# Altium footprint library PcbLib1.PcbLib: 74 footprints (part 3 of 5)
Each footprint in its own frame and in the unit in brackets; x right, y up, seen from the top. Pads: shape width x height; smd on the part's side, far side on the other; paste and mask are expansions set on the pad; w line width, h text height; cw(c..) or ccw(c..) is an arc to the next point about the centre after c.
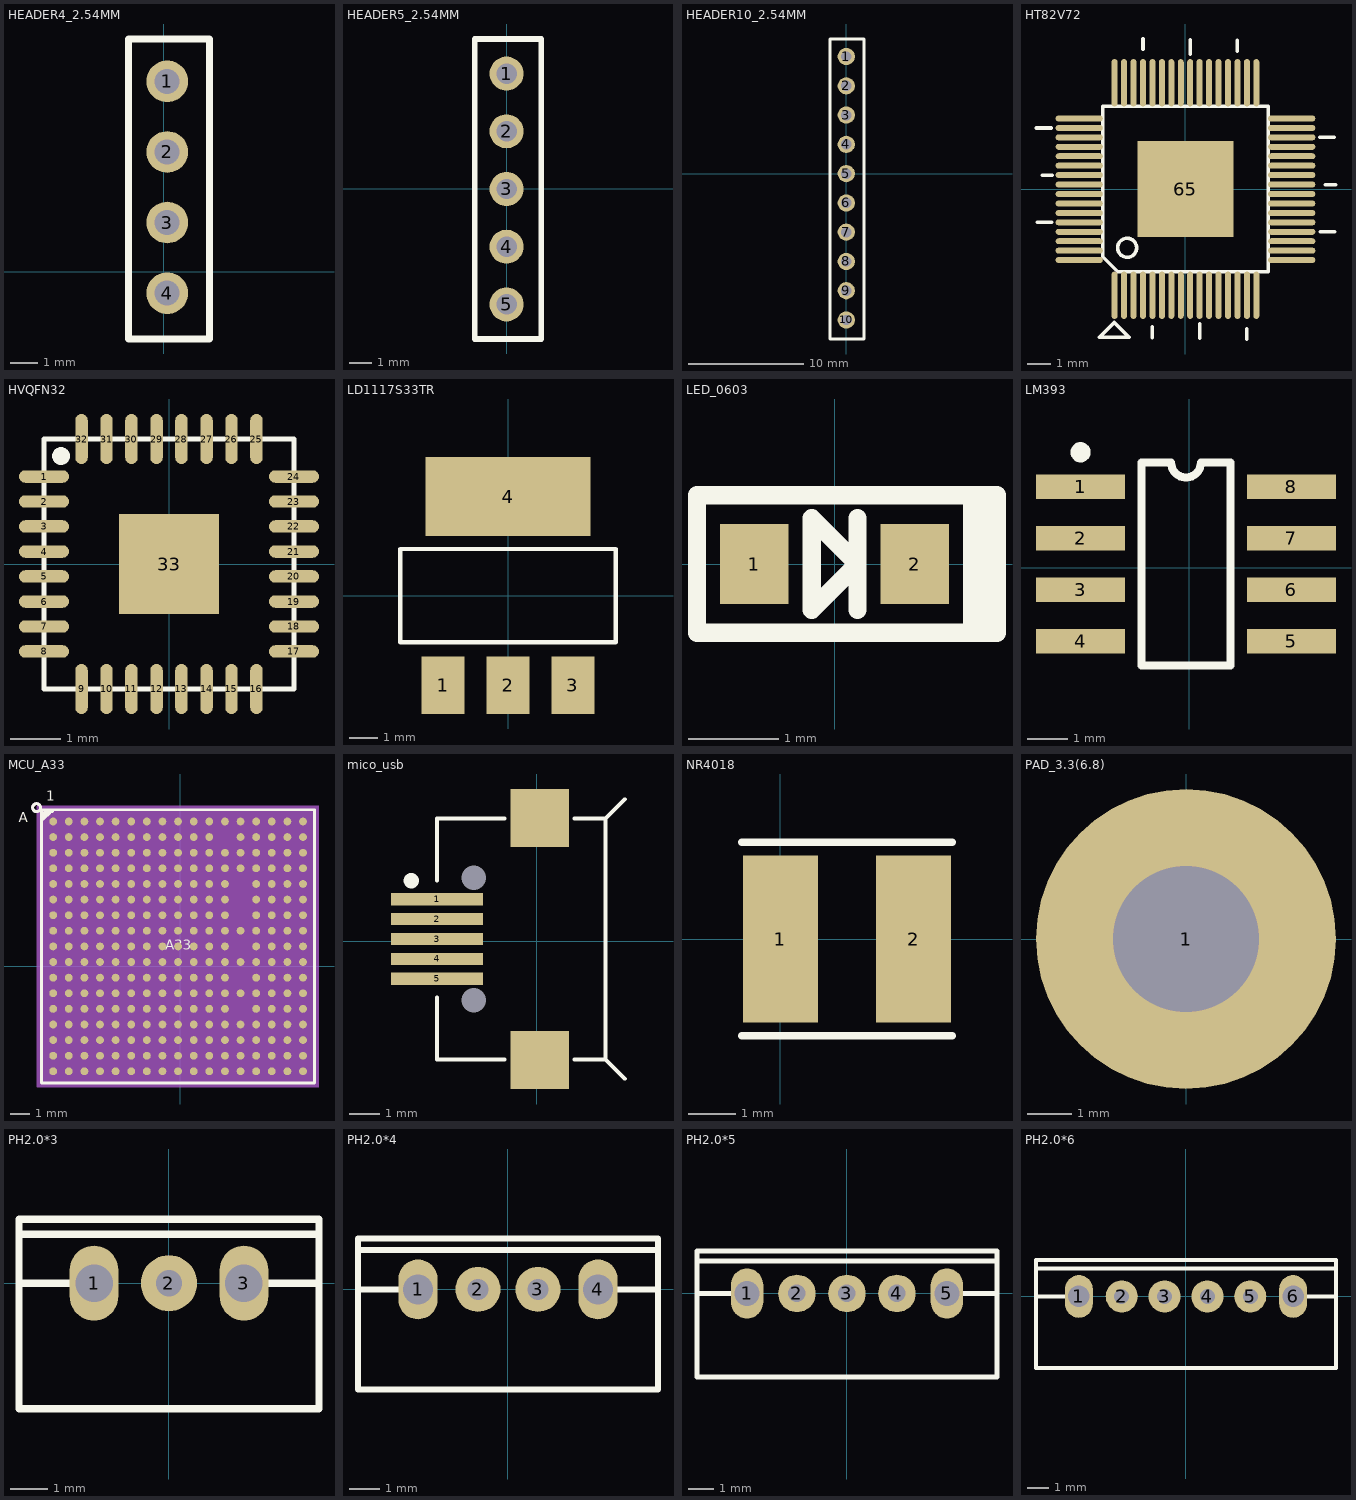
[diagram p2: the footprints below, top view; thin cyan lines are the x and y axes]

## HEADER4_2.54MM [mm]
pads (4):
  round 1.5 hole 0.9: 1(0.127,6.858) 2(0.127,4.318) 3(0.127,1.778) 4(0.127,-0.762)
Top Overlay:
  lines w0.254: -1.27,-2.413 1.651,-2.413 1.651,8.382 -1.27,8.382 -1.27,-2.413

## HEADER5_2.54MM [mm]
pads (5):
  round 1.5 hole 0.9: 1(0,5.08) 2(0,2.54) 3(0,0) 4(0,-2.54) 5(0,-5.08)
Top Overlay:
  lines w0.254: -1.397,-6.604 1.524,-6.604 1.524,6.604 -1.397,6.604 -1.397,-6.604

## HEADER10_2.54MM [mm]
pads (10):
  round 1.5 hole 0.9: 1(0,10.16) 2(0,7.62) 3(0,5.08) 4(0,2.54) 5(0,0) 6(0,-2.54) 7(0,-5.08) 8(0,-7.62) 9(0,-10.16) 10(0,-12.7)
Top Overlay:
  lines w0.254: -1.397,-14.351 1.524,-14.351 1.524,11.684 -1.397,11.684 -1.397,-14.351

## HT82V72 [mm]
pads (65):
  oval 0.254x2 smd: 1(-3,-4.5) 2(-2.6,-4.5) 3(-2.2,-4.5) 4(-1.8,-4.5) 5(-1.4,-4.5) 6(-1,-4.5) 7(-0.6,-4.5) 8(-0.2,-4.5) 9(0.2,-4.5) 10(0.6,-4.5) 11(1,-4.5) 12(1.4,-4.5) 13(1.8,-4.5) 14(2.2,-4.5) 15(2.6,-4.5) 16(3,-4.5) 33(3,4.5) 34(2.6,4.5) 35(2.2,4.5) 36(1.8,4.5) 37(1.4,4.5) 38(1,4.5) 39(0.6,4.5) 40(0.2,4.5) 41(-0.2,4.5) 42(-0.6,4.5) 43(-1,4.5) 44(-1.4,4.5) 45(-1.8,4.5) 46(-2.2,4.5) 47(-2.6,4.5) 48(-3,4.5)
  oval 2x0.254 smd: 17(4.5,-3.012) 18(4.5,-2.612) 19(4.5,-2.212) 20(4.5,-1.812) 21(4.5,-1.412) 22(4.5,-1.012) 23(4.5,-0.612) 24(4.5,-0.212) 25(4.5,0.188) 26(4.5,0.588) 27(4.5,0.988) 28(4.5,1.388) 29(4.5,1.788) 30(4.5,2.188) 31(4.5,2.588) 32(4.5,2.988) 49(-4.5,2.988) 50(-4.5,2.588) 51(-4.5,2.188) 52(-4.5,1.788) 53(-4.5,1.388) 54(-4.5,0.988) 55(-4.5,0.588) 56(-4.5,0.188) 57(-4.5,-0.212) 58(-4.5,-0.612) 59(-4.5,-1.012) 60(-4.5,-1.412) 61(-4.5,-1.812) 62(-4.5,-2.212) 63(-4.5,-2.612) 64(-4.5,-3.012)
  rect 4.06x4.06 smd: 65(0,0)
Top Overlay:
  circle w0.152: c-2.471,-2.491 r0.402
  lines w0.152: -6.309,2.585 -5.697,2.585 ; -6.274,-1.415 -5.662,-1.415 ; -6.071,0.585 -5.636,0.585 ; -1.8,5.918 -1.8,6.353 ; -1.4,-6.301 -1.4,-5.842 ; 0.2,5.715 0.2,6.327 ; 0.6,-6.327 0.6,-5.715 ; 2.2,5.842 2.2,6.301 ; 2.6,-6.353 2.6,-5.918 ; 5.68,2.188 6.292,2.188 ; 5.715,-1.812 6.327,-1.812 ; 5.918,0.188 6.353,0.188 ; -3.651,-6.286 -2.381,-6.286 -3.016,-5.651 -3.651,-6.286 ; -3.5,-2.865 -2.865,-3.5 3.5,-3.5 3.5,3.5 -3.5,3.5 -3.5,-2.865

## HVQFN32 [mm]
pads (33):
  oval 1x0.25 smd paste-0.025: 1(-2.5,1.75) 2(-2.5,1.25) 3(-2.5,0.75) 4(-2.5,0.25) 5(-2.5,-0.25) 6(-2.5,-0.75) 7(-2.5,-1.25) 8(-2.5,-1.75) 17(2.5,-1.75) 18(2.5,-1.25) 19(2.5,-0.75) 20(2.5,-0.25) 21(2.5,0.25) 22(2.5,0.75) 23(2.5,1.25) 24(2.5,1.75)
  oval 0.25x1 smd paste-0.025: 9(-1.75,-2.5) 10(-1.25,-2.5) 11(-0.75,-2.5) 12(-0.25,-2.5) 13(0.25,-2.5) 14(0.75,-2.5) 15(1.25,-2.5) 16(1.75,-2.5) 25(1.75,2.5) 26(1.25,2.5) 27(0.75,2.5) 28(0.25,2.5) 29(-0.25,2.5) 30(-0.75,2.5) 31(-1.25,2.5) 32(-1.75,2.5)
  rect 2x2 smd: 33(0,0)
Top Overlay:
  circle w0.254: c-2.159,2.159 r0.05
  lines w0.1: -2.5,-2.5 2.5,-2.5 2.5,2.5 -2.5,2.5 -2.5,-2.5

## LD1117S33TR [mil] "SOT-223"
pads (4):
  rect 60x80 smd: 1(-90.55,-125) 2(0,-125) 3(90.55,-125)
  rect 230x110 smd: 4(0,138)
Top Overlay:
  lines w6: -150,-65 150,-65 150,65 -150,65 -150,-65

## LED_0603 [mil]
pads (2):
  rect 30x35 smd: 1(-35,0) 2(35,0)
Top Overlay:
  lines w8: 10,-20 10,20 ; 65.35,-27.17 65.35,27.17 ; 60,-30 60,30 ; 60,-30 -60,-30 -60,30 60,30 ; 60,-30 70.87,-30 70.87,30 60,30 ; -10,-20 -10,20 10,0 -10,-20

## LM393 [mm]
pads (8):
  rect 2.2x0.6 smd: 1(-2.677,1.996) 2(-2.677,0.726) 3(-2.677,-0.544) 4(-2.677,-1.814) 5(2.523,-1.814) 6(2.523,-0.544) 7(2.523,0.726) 8(2.523,1.996)
Top Overlay:
  circle w0.25: c-2.677,2.846 r0.125
  lines w0.2: -1.177,-2.409 -1.177,2.591 -0.444,2.591 ccw(c-0.077,2.591) 0.289,2.591 1.023,2.591 1.023,-2.409 -1.177,-2.409

## MCU_A33 [mm]
pads (282):
  round 0.4 smd: A1(-6.517,7.421) A2(-5.717,7.421) A3(-4.917,7.421) A4(-4.117,7.421) A5(-3.317,7.421) A6(-2.517,7.421) A7(-1.717,7.421) A8(-0.917,7.421) A9(-0.117,7.421) A10(0.683,7.421) A11(1.483,7.421) A12(2.283,7.421) A13(3.083,7.421) A14(3.883,7.421) A15(4.683,7.421) A16(5.483,7.421) A17(6.283,7.421) B1(-6.517,6.621) B2(-5.717,6.621) B3(-4.917,6.621) B4(-4.117,6.621) B5(-3.317,6.621) B6(-2.517,6.621) B7(-1.717,6.621) B8(-0.917,6.621) B9(-0.117,6.621) B10(0.683,6.621) B11(1.483,6.621) B13(3.083,6.621) B14(3.883,6.621) B15(4.683,6.621) B16(5.483,6.621) B17(6.283,6.621) C1(-6.517,5.821) C2(-5.717,5.821) C3(-4.917,5.821) C4(-4.117,5.821) C5(-3.317,5.821) C6(-2.517,5.821) C7(-1.717,5.821) C8(-0.917,5.821) C9(-0.117,5.821) C10(0.683,5.821) C11(1.483,5.821) C12(2.283,5.821) C13(3.083,5.821) C14(3.883,5.821) C15(4.683,5.821) C16(5.483,5.821) C17(6.283,5.821) D1(-6.517,5.021) D2(-5.717,5.021) D3(-4.917,5.021) D4(-4.117,5.021) D5(-3.317,5.021) D6(-2.517,5.021) D7(-1.717,5.021) D8(-0.917,5.021) D9(-0.117,5.021) D10(0.683,5.021) D11(1.483,5.021) D12(2.283,5.021) D13(3.083,5.021) D14(3.883,5.021) D15(4.683,5.021) D16(5.483,5.021) D17(6.283,5.021) E1(-6.517,4.221) E2(-5.717,4.221) E3(-4.917,4.221) E4(-4.117,4.221) E5(-3.317,4.221) E6(-2.517,4.221) E7(-1.717,4.221) E8(-0.917,4.221) E9(-0.117,4.221) E10(0.683,4.221) E11(1.483,4.221) E12(2.283,4.221) E14(3.883,4.221) E15(4.683,4.221) E16(5.483,4.221) E17(6.283,4.221) F1(-6.517,3.421) F2(-5.717,3.421) F3(-4.917,3.421) F4(-4.117,3.421) F5(-3.317,3.421) F6(-2.517,3.421) F7(-1.717,3.421) F8(-0.917,3.421) F9(-0.117,3.421) F10(0.683,3.421) F11(1.483,3.421) F12(2.283,3.421) F14(3.883,3.421) F15(4.683,3.421) F16(5.483,3.421) F17(6.283,3.421) G1(-6.517,2.621) G2(-5.717,2.621) G3(-4.917,2.621) G4(-4.117,2.621) G5(-3.317,2.621) G6(-2.517,2.621) G7(-1.717,2.621) G8(-0.917,2.621) G9(-0.117,2.621) G10(0.683,2.621) G11(1.483,2.621) G12(2.283,2.621) G14(3.883,2.621) G15(4.683,2.621) G16(5.483,2.621) G17(6.283,2.621) H1(-6.517,1.821) H2(-5.717,1.821) H3(-4.917,1.821) H4(-4.117,1.821) H5(-3.317,1.821) H6(-2.517,1.821) H7(-1.717,1.821) H8(-0.917,1.821) H9(-0.117,1.821) H10(0.683,1.821) H11(1.483,1.821) H12(2.283,1.821) H13(3.083,1.821) H14(3.883,1.821) H15(4.683,1.821) H16(5.483,1.821) H17(6.283,1.821) J1(-6.517,1.021) J2(-5.717,1.021) J3(-4.917,1.021) J4(-4.117,1.021) J5(-3.317,1.021) J6(-2.517,1.021) J7(-1.717,1.021) J8(-0.917,1.021) J9(-0.117,1.021) J10(0.683,1.021) J11(1.483,1.021) J12(2.283,1.021) J14(3.883,1.021) J15(4.683,1.021) J16(5.483,1.021) J17(6.283,1.021) K1(-6.517,0.221) K2(-5.717,0.221) K3(-4.917,0.221) K4(-4.117,0.221) K5(-3.317,0.221) K6(-2.517,0.221) K7(-1.717,0.221) K8(-0.917,0.221) K9(-0.117,0.221) K10(0.683,0.221) K11(1.483,0.221) K12(2.283,0.221) K13(3.083,0.221) K14(3.883,0.221) K15(4.683,0.221) K16(5.483,0.221) K17(6.283,0.221) L1(-6.517,-0.579) L2(-5.717,-0.579) L3(-4.917,-0.579) L4(-4.117,-0.579) L5(-3.317,-0.579) L6(-2.517,-0.579) L7(-1.717,-0.579) L8(-0.917,-0.579) L9(-0.117,-0.579) L10(0.683,-0.579) L11(1.483,-0.579) L12(2.283,-0.579) L14(3.883,-0.579) L15(4.683,-0.579) L16(5.483,-0.579) L17(6.283,-0.579) M1(-6.517,-1.379) M2(-5.717,-1.379) M3(-4.917,-1.379) M4(-4.117,-1.379) M5(-3.317,-1.379) M6(-2.517,-1.379) M7(-1.717,-1.379) M8(-0.917,-1.379) M9(-0.117,-1.379) M10(0.683,-1.379) M11(1.483,-1.379) M12(2.283,-1.379) M13(3.083,-1.379) M14(3.883,-1.379) M15(4.683,-1.379) M16(5.483,-1.379) M17(6.283,-1.379) N1(-6.517,-2.179) N2(-5.717,-2.179) N3(-4.917,-2.179) N4(-4.117,-2.179) N5(-3.317,-2.179) N6(-2.517,-2.179) N7(-1.717,-2.179) N8(-0.917,-2.179) N9(-0.117,-2.179) N10(0.683,-2.179) N11(1.483,-2.179) N12(2.283,-2.179) N14(3.883,-2.179) N15(4.683,-2.179) N16(5.483,-2.179) N17(6.283,-2.179) P1(-6.517,-2.979) P2(-5.717,-2.979) P3(-4.917,-2.979) P4(-4.117,-2.979) P5(-3.317,-2.979) P6(-2.517,-2.979) P7(-1.717,-2.979) P8(-0.917,-2.979) P9(-0.117,-2.979) P10(0.683,-2.979) P11(1.483,-2.979) P12(2.283,-2.979) P13(3.083,-2.979) P14(3.883,-2.979) P15(4.683,-2.979) P16(5.483,-2.979) P17(6.283,-2.979) R1(-6.517,-3.779) R2(-5.717,-3.779) R3(-4.917,-3.779) R4(-4.117,-3.779) R5(-3.317,-3.779) R6(-2.517,-3.779) R7(-1.717,-3.779) R8(-0.917,-3.779) R9(-0.117,-3.779) R10(0.683,-3.779) R11(1.483,-3.779) R12(2.283,-3.779) R13(3.083,-3.779) R14(3.883,-3.779) R15(4.683,-3.779) R16(5.483,-3.779) R17(6.283,-3.779) T1(-6.517,-4.579) T2(-5.717,-4.579) T3(-4.917,-4.579) T4(-4.117,-4.579) T5(-3.317,-4.579) T6(-2.517,-4.579) T7(-1.717,-4.579) T8(-0.917,-4.579) T9(-0.117,-4.579) T10(0.683,-4.579) T11(1.483,-4.579) T12(2.283,-4.579) T13(3.083,-4.579) T14(3.883,-4.579) T15(4.683,-4.579) T16(5.483,-4.579) T17(6.283,-4.579) U1(-6.517,-5.379) U2(-5.717,-5.379) U3(-4.917,-5.379) U4(-4.117,-5.379) U5(-3.317,-5.379) U6(-2.517,-5.379) U7(-1.717,-5.379) U8(-0.917,-5.379) U9(-0.117,-5.379) U10(0.683,-5.379) U11(1.483,-5.379) U12(2.283,-5.379) U13(3.083,-5.379) U14(3.883,-5.379) U15(4.683,-5.379) U16(5.483,-5.379) U17(6.283,-5.379)
Top Overlay:
  circle w0.15: c-7.367,8.131 r0.202
  lines w0.15: -7.097,7.771 -6.937,7.931 -6.767,7.931 ; -7.007,7.541 -6.697,7.851 -6.697,7.931 -6.967,7.661 -7.037,7.661 -6.767,7.931 ; -6.557,7.931 -6.767,7.931 ; -7.117,-5.979 6.883,-5.979 6.883,8.021 -7.117,8.021 -7.117,-5.979
  text "A" at -8.267,7.381 h0.51
  text "1" at -6.867,8.491 h0.51
  text "A33" at -0.775,0.847 h0.51
Mechanical 7:
  lines w0.15: -7.097,7.771 -6.937,7.931 -6.767,7.931 ; -7.007,7.541 -6.697,7.851 -6.697,7.931 -6.967,7.661 -7.037,7.661 -6.767,7.931 ; -6.557,7.931 -6.767,7.931 ; -7.569,8.131 ccw(c-7.367,8.131) -7.367,7.929 ccw(c-7.367,8.131) -7.165,8.131 ccw(c-7.367,8.131) -7.367,8.333 ccw(c-7.367,8.131) -7.569,8.131 ; -7.117,-5.979 6.883,-5.979 6.883,8.021 -7.117,8.021 -7.117,-5.979
  text "A33" at 0.933,8.871 h0.51
  text "U23" at -1.227,8.821 h0.51
  text "1" at -6.867,8.491 h0.51
  text "A" at -8.267,7.381 h0.51
Mechanical 8:
  text "H5" at -3.317,2.329 h0.64
  text "L5" at -3.317,-0.071 h0.64
  text "K5" at -3.317,0.729 h0.64
  text "J6" at -2.517,1.529 h0.64
  text "H6" at -2.517,2.329 h0.64
  text "J5" at -3.317,1.529 h0.64
  text "A5" at -3.317,7.929 h0.64
  text "K14" at 3.883,0.983 h0.64
  text "T16" at 5.483,-3.817 h0.64
  text "K16" at 5.483,0.983 h0.64
  text "T17" at 6.283,-3.817 h0.64
  text "U16" at 5.483,-4.617 h0.64
  text "B3" at -4.917,7.129 h0.64
  text "N16" at 5.483,-1.417 h0.64
  text "L14" at 3.883,0.183 h0.64
  text "J14" at 3.883,1.783 h0.64
  text "E17" at 6.283,4.983 h0.64
  text "K13" at 3.083,0.983 h0.64
  text "G15" at 4.683,3.383 h0.64
  text "E11" at 1.483,4.983 h0.64
  text "E12" at 2.283,4.983 h0.64
  text "F12" at 2.283,4.183 h0.64
  text "G12" at 2.283,3.383 h0.64
  text "F11" at 1.483,4.183 h0.64
  text "N11" at 1.483,-1.417 h0.64
  text "M11" at 1.483,-0.617 h0.64
  text "C9" at -0.117,6.329 h0.64
  text "D15" at 4.683,5.783 h0.64
  text "D8" at -0.917,5.529 h0.64
  text "L12" at 2.283,0.183 h0.64
  text "D14" at 3.883,5.783 h0.64
  text "C8" at -0.917,6.329 h0.64
  text "D13" at 3.083,5.783 h0.64
  text "C5" at -3.317,6.329 h0.64
  text "C13" at 3.083,6.583 h0.64
  text "D6" at -2.517,5.529 h0.64
  text "B2" at -5.717,7.129 h0.64
  text "D7" at -1.717,5.529 h0.64
  text "U17" at 6.283,-4.617 h0.64
  text "M5" at -3.317,-0.871 h0.64
  text "L15" at 4.683,0.183 h0.64
  text "K15" at 4.683,0.983 h0.64
  text "M13" at 3.083,-0.617 h0.64
  text "N15" at 4.683,-1.417 h0.64
  text "M15" at 4.683,-0.617 h0.64
  text "U14" at 3.883,-4.617 h0.64
  text "T14" at 3.883,-3.817 h0.64
  text "D10" at 0.683,5.783 h0.64
  text "C14" at 3.883,6.583 h0.64
  text "F17" at 6.283,4.183 h0.64
  text "E16" at 5.483,4.983 h0.64
  text "G17" at 6.283,3.383 h0.64
  text "P14" at 3.883,-2.217 h0.64
  text "B14" at 3.883,7.383 h0.64
  text "A17" at 6.283,8.183 h0.64
  text "P13" at 3.083,-2.217 h0.64
  text "T13" at 3.083,-3.817 h0.64
  text "R17" at 6.283,-3.017 h0.64
  text "R16" at 5.483,-3.017 h0.64
  text "A14" at 3.883,8.183 h0.64
  text "A16" at 5.483,8.183 h0.64
  text "B16" at 5.483,7.383 h0.64
  text "B17" at 6.283,7.383 h0.64
  text "B13" at 3.083,7.383 h0.64
  text "B15" at 4.683,7.383 h0.64
  text "R15" at 4.683,-3.017 h0.64
  text "H17" at 6.283,2.583 h0.64
  text "B6" at -2.517,7.129 h0.64
  text "P17" at 6.283,-2.217 h0.64
  text "A13" at 3.083,8.183 h0.64
  text "A15" at 4.683,8.183 h0.64
  text "C10" at 0.683,6.583 h0.64
  text "B11" at 1.483,7.383 h0.64
  text "D11" at 1.483,5.783 h0.64
  text "F16" at 5.483,4.183 h0.64
  text "C11" at 1.483,6.583 h0.64
  text "G16" at 5.483,3.383 h0.64
  text "C12" at 2.283,6.583 h0.64
  text "D12" at 2.283,5.783 h0.64
  text "A7" at -1.717,7.929 h0.64
  text "B7" at -1.717,7.129 h0.64
  text "D17" at 6.283,5.783 h0.64
  text "A8" at -0.917,7.929 h0.64
  text "B8" at -0.917,7.129 h0.64
  text "A9" at -0.117,7.929 h0.64
  text "N6" at -2.517,-1.671 h0.64
  text "B9" at -0.117,7.129 h0.64
  text "U5" at -3.317,-4.871 h0.64
  text "A10" at 0.683,8.183 h0.64
  text "B10" at 0.683,7.383 h0.64
  text "A11" at 1.483,8.183 h0.64
  text "T5" at -3.317,-4.071 h0.64
  text "D5" at -3.317,5.529 h0.64
  text "C6" at -2.517,6.329 h0.64
  text "K17" at 6.283,0.983 h0.64
  text "L17" at 6.283,0.183 h0.64
  text "A4" at -4.117,7.929 h0.64
  text "C17" at 6.283,6.583 h0.64
  text "C16" at 5.483,6.583 h0.64
  text "C15" at 4.683,6.583 h0.64
  text "F14" at 3.883,4.183 h0.64
  text "E14" at 3.883,4.983 h0.64
  text "D9" at -0.117,5.529 h0.64
  text "C3" at -4.917,6.329 h0.64
  text "A2" at -5.717,7.929 h0.64
  text "D3" at -4.917,5.529 h0.64
  text "C4" at -4.117,6.329 h0.64
  text "D4" at -4.117,5.529 h0.64
  text "R14" at 3.883,-3.017 h0.64
  text "T12" at 2.283,-3.817 h0.64
  text "U12" at 2.283,-4.617 h0.64
  text "L16" at 5.483,0.183 h0.64
  text "P5" at -3.317,-2.471 h0.64
  text "U6" at -2.517,-4.871 h0.64
  text "R6" at -2.517,-3.271 h0.64
  text "P6" at -2.517,-2.471 h0.64
  text "P4" at -4.117,-2.471 h0.64
  text "N14" at 3.883,-1.417 h0.64
  text "H16" at 5.483,2.583 h0.64
  text "N10" at 0.683,-1.417 h0.64
  text "N9" at -0.117,-1.671 h0.64
  text "E8" at -0.917,4.729 h0.64
  text "E9" at -0.117,4.729 h0.64
  text "E10" at 0.683,4.983 h0.64
  text "M7" at -1.717,-0.871 h0.64
  text "M6" at -2.517,-0.871 h0.64
  text "N8" at -0.917,-1.671 h0.64
  text "L6" at -2.517,-0.071 h0.64
  text "K6" at -2.517,0.729 h0.64
  text "C7" at -1.717,6.329 h0.64
  text "R4" at -4.117,-3.271 h0.64
  text "M12" at 2.283,-0.617 h0.64
  text "T6" at -2.517,-4.071 h0.64
  text "R5" at -3.317,-3.271 h0.64
  text "P15" at 4.683,-2.217 h0.64
  text "G5" at -3.317,3.129 h0.64
  text "F5" at -3.317,3.929 h0.64
  text "G6" at -2.517,3.129 h0.64
  text "F7" at -1.717,3.929 h0.64
  text "F6" at -2.517,3.929 h0.64
  text "E5" at -3.317,4.729 h0.64
  text "E6" at -2.517,4.729 h0.64
  text "E7" at -1.717,4.729 h0.64
  text "B4" at -4.117,7.129 h0.64
  text "A3" at -4.917,7.929 h0.64
  text "J17" at 6.283,1.783 h0.64
  text "A6" at -2.517,7.929 h0.64
  text "D16" at 5.483,5.783 h0.64
  text "M16" at 5.483,-0.617 h0.64
  text "P16" at 5.483,-2.217 h0.64
  text "M17" at 6.283,-0.617 h0.64
  text "B5" at -3.317,7.129 h0.64
  text "J16" at 5.483,1.783 h0.64
  text "N17" at 6.283,-1.417 h0.64
  text "M14" at 3.883,-0.617 h0.64
  text "H14" at 3.883,2.583 h0.64
  text "U9" at -0.117,-4.871 h0.64
  text "U11" at 1.483,-4.617 h0.64
  text "T11" at 1.483,-3.817 h0.64
  text "R12" at 2.283,-3.017 h0.64
  text "T15" at 4.683,-3.817 h0.64
  text "U10" at 0.683,-4.617 h0.64
  text "P11" at 1.483,-2.217 h0.64
  text "R11" at 1.483,-3.017 h0.64
  text "T9" at -0.117,-4.071 h0.64
  text "P8" at -0.917,-2.471 h0.64
  text "P9" at -0.117,-2.471 h0.64
  text "T10" at 0.683,-3.817 h0.64
  text "R7" at -1.717,-3.271 h0.64
  text "P10" at 0.683,-2.217 h0.64
  text "P12" at 2.283,-2.217 h0.64
  text "R10" at 0.683,-3.017 h0.64
  text "R8" at -0.917,-3.271 h0.64
  text "R9" at -0.117,-3.271 h0.64
  text "P7" at -1.717,-2.471 h0.64
  text "E15" at 4.683,4.983 h0.64
  text "U15" at 4.683,-4.617 h0.64
  text "U4" at -4.117,-4.871 h0.64
  text "T4" at -4.117,-4.071 h0.64
  text "T7" at -1.717,-4.071 h0.64
  text "T8" at -0.917,-4.071 h0.64
  text "U7" at -1.717,-4.871 h0.64
  text "U8" at -0.917,-4.871 h0.64
  text "J15" at 4.683,1.783 h0.64
  text "H15" at 4.683,2.583 h0.64
  text "A12" at 2.283,8.183 h0.64
  text "F15" at 4.683,4.183 h0.64
  text "G14" at 3.883,3.383 h0.64
  text "U13" at 3.083,-4.617 h0.64
  text "R13" at 3.083,-3.017 h0.64
  text "N12" at 2.283,-1.417 h0.64
  text "H13" at 3.083,2.583 h0.64
  text "N7" at -1.717,-1.671 h0.64
  text "L7" at -1.717,-0.071 h0.64
  text "N5" at -3.317,-1.671 h0.64
  text "P3" at -4.917,-2.471 h0.64
  text "R3" at -4.917,-3.271 h0.64
  text "M4" at -4.117,-0.871 h0.64
  text "G3" at -4.917,3.129 h0.64
  text "L3" at -4.917,-0.071 h0.64
  text "H4" at -4.117,2.329 h0.64
  text "K4" at -4.117,0.729 h0.64
  text "J3" at -4.917,1.529 h0.64
  text "N3" at -4.917,-1.671 h0.64
  text "L4" at -4.117,-0.071 h0.64
  text "M3" at -4.917,-0.871 h0.64
  text "K3" at -4.917,0.729 h0.64
  text "E1" at -6.517,4.729 h0.64
  text "D1" at -6.517,5.529 h0.64
  text "F3" at -4.917,3.929 h0.64
  text "F4" at -4.117,3.929 h0.64
  text "G4" at -4.117,3.129 h0.64
  text "H3" at -4.917,2.329 h0.64
  text "E2" at -5.717,4.729 h0.64
  text "F1" at -6.517,3.929 h0.64
  text "C1" at -6.517,6.329 h0.64
  text "A1" at -6.517,7.929 h0.64
  text "F2" at -5.717,3.929 h0.64
  text "C2" at -5.717,6.329 h0.64
  text "B1" at -6.517,7.129 h0.64
  text "E3" at -4.917,4.729 h0.64
  text "D2" at -5.717,5.529 h0.64
  text "E4" at -4.117,4.729 h0.64
  text "J4" at -4.117,1.529 h0.64
  text "G1" at -6.517,3.129 h0.64
  text "T3" at -4.917,-4.071 h0.64
  text "N2" at -5.717,-1.671 h0.64
  text "T1" at -6.517,-4.071 h0.64
  text "R1" at -6.517,-3.271 h0.64
  text "K1" at -6.517,0.729 h0.64
  text "K2" at -5.717,0.729 h0.64
  text "L1" at -6.517,-0.071 h0.64
  text "R2" at -5.717,-3.271 h0.64
  text "U3" at -4.917,-4.871 h0.64
  text "J2" at -5.717,1.529 h0.64
  text "P1" at -6.517,-2.471 h0.64
  text "J1" at -6.517,1.529 h0.64
  text "P2" at -5.717,-2.471 h0.64
  text "G2" at -5.717,3.129 h0.64
  text "U1" at -6.517,-4.871 h0.64
  text "N1" at -6.517,-1.671 h0.64
  text "H2" at -5.717,2.329 h0.64
  text "L2" at -5.717,-0.071 h0.64
  text "T2" at -5.717,-4.071 h0.64
  text "U2" at -5.717,-4.871 h0.64
  text "M2" at -5.717,-0.871 h0.64
  text "H1" at -6.517,2.329 h0.64
  text "M1" at -6.517,-0.871 h0.64
  text "L8" at -0.917,-0.071 h0.64
  text "K8" at -0.917,0.729 h0.64
  text "G7" at -1.717,3.129 h0.64
  text "F8" at -0.917,3.929 h0.64
  text "H7" at -1.717,2.329 h0.64
  text "J8" at -0.917,1.529 h0.64
  text "K7" at -1.717,0.729 h0.64
  text "J7" at -1.717,1.529 h0.64
  text "M8" at -0.917,-0.871 h0.64
  text "N4" at -4.117,-1.671 h0.64
  text "G11" at 1.483,3.383 h0.64
  text "H12" at 2.283,2.583 h0.64
  text "J12" at 2.283,1.783 h0.64
  text "G9" at -0.117,3.129 h0.64
  text "F9" at -0.117,3.929 h0.64
  text "H9" at -0.117,2.329 h0.64
  text "G8" at -0.917,3.129 h0.64
  text "F10" at 0.683,4.183 h0.64
  text "G10" at 0.683,3.383 h0.64
  text "J10" at 0.683,1.783 h0.64
  text "J11" at 1.483,1.783 h0.64
  text "H11" at 1.483,2.583 h0.64
  text "H10" at 0.683,2.583 h0.64
  text "H8" at -0.917,2.329 h0.64
  text "K9" at -0.117,0.729 h0.64
  text "J9" at -0.117,1.529 h0.64
  text "K10" at 0.683,0.983 h0.64
  text "K11" at 1.483,0.983 h0.64
  text "K12" at 2.283,0.983 h0.64
  text "M9" at -0.117,-0.871 h0.64
  text "L9" at -0.117,-0.071 h0.64
  text "L10" at 0.683,0.183 h0.64
  text "M10" at 0.683,-0.617 h0.64
  text "L11" at 1.483,0.183 h0.64
Mechanical 10:
  region: -7.357,8.231 -7.357,-6.199 7.103,-6.199 7.103,8.231

## mico_usb [mm]
pads (9):
  rect 3x0.4 smd: 1(-3.254,1.376) 2(-3.254,0.726) 3(-3.254,0.076) 4(-3.254,-0.574) 5(-3.254,-1.224)
  round 0 hole 0.8 unplated: MH1(-2.046,2.076) MH2(-2.046,-1.924)
  rect 1.9x1.9 smd: ""(0.104,-3.874) ""(0.104,4.026)
Top Overlay:
  circle w0.25: c-4.094,1.981 r0.125
  lines w0.127: -3.254,-3.861 -1.048,-3.861 ; -3.254,-3.824 -3.254,-1.829 ; -3.254,1.981 -3.254,3.976 ; -3.254,4.013 -1.048,4.013 ; 1.238,-3.861 2.254,-3.861 2.884,-4.491 ; 1.238,4.013 2.254,4.013 2.884,4.643 ; 2.254,-3.824 2.254,3.976

## NR4018 [mil]
pads (2):
  rect 62x138 smd: 1(0,0) 2(110,0)
Top Overlay:
  lines w5.91: -32,-80 142,-80 ; -32,80 142,80

## PAD_3.3(6.8) [mm]
pads (1):
  round 6.8 hole 3.3: 1(0,0)

## PH2.0*3 [mm]
pads (3):
  oval 1.3x2 hole 1: 1(-2,0) 3(2,0)
  round 1.5 hole 0.7: 2(0,0)
Top Overlay:
  lines w0.2: -4,0 -2,0 ; -4,1.307 4,1.307 ; 2,0 4,0 ; -4,-3.342 4,-3.342 4,1.7 -4,1.7 -4,-3.342

## PH2.0*4 [mm]
pads (4):
  oval 1.3x2 hole 1: 1(-3,0) 4(3,0)
  round 1.5 hole 0.7: 2(-1,0) 3(1,0)
Top Overlay:
  lines w0.2: -5,0 -3,0 ; -5,1.307 5,1.307 ; 3,0 5,0 ; -5,-3.342 5,-3.342 5,1.7 -5,1.7 -5,-3.342

## PH2.0*5 [mm]
pads (5):
  oval 1.3x2 hole 1: 1(-4,0) 5(4,0)
  round 1.5 hole 0.7: 2(-2,0) 3(0,0) 4(2,0)
Top Overlay:
  lines w0.2: -6,0 -4,0 ; -6,1.307 6,1.307 ; 4,0 6,0 ; -6,-3.342 6,-3.342 6,1.7 -6,1.7 -6,-3.342

## PH2.0*6 [mm]
pads (6):
  oval 1.3x2 hole 1: 1(-5,0) 6(5,0)
  round 1.5 hole 0.7: 2(-3,0) 3(-1,0) 4(1,0) 5(3,0)
Top Overlay:
  lines w0.2: -7,0 -5,0 ; -7,1.307 7,1.307 ; 5,0 7,0 ; -7,-3.342 -7,1.7 7,1.7 7,-3.342 -7,-3.342